# EAGLE library part FIN1031 (library cdp)
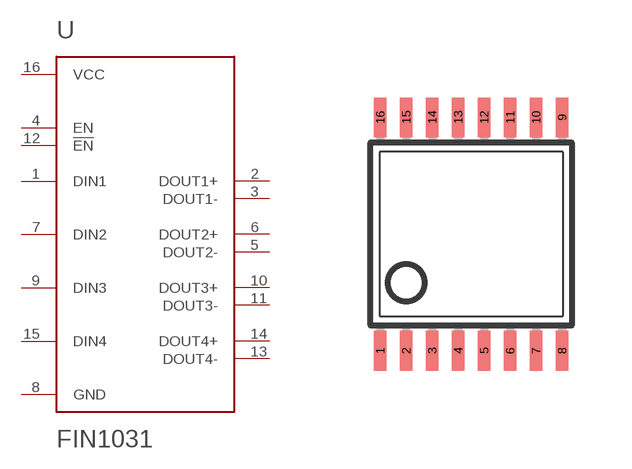
[diagram p32: symbol with the pads of TSSOP16; footprint TSSOP16]

Designator prefix U

## FIN1031  [TSSOP16]
1  DIN1
2  DOUT1+
3  DOUT1-
4  EN
5  DOUT2-
6  DOUT2+
7  DIN2
8  GND
9  DIN3
10  DOUT3+
11  DOUT3-
12  !EN
13  DOUT4-
14  DOUT4+
15  DIN4
16  VCC

## Footprint TSSOP16 (pad centres in mm)
Thin Shrink Small Outline Plastic 16 MAX3223-MAX3243.pdf
smd 0.305 x 0.991: 1 -2.275,-2.918; 2 -1.625,-2.918; 3 -0.975,-2.918; 4 -0.325,-2.918; 5 0.325,-2.918; 6 0.975,-2.918; 7 1.625,-2.918; 8 2.275,-2.918; 9 2.275,2.918; 10 1.625,2.918; 11 0.975,2.918; 12 0.325,2.918; 13 -0.325,2.918; 14 -0.975,2.918; 15 -1.625,2.918; 16 -2.275,2.918